# Altium footprint library LABLIB.PcbLib: 213 footprints (part 4 of 14)
Each footprint in its own frame and in the unit in brackets; x right, y up, seen from the top. Pads: shape width x height; smd on the part's side, far side on the other; paste and mask are expansions set on the pad; w line width, h text height; cw(c..) or ccw(c..) is an arc to the next point about the centre after c.
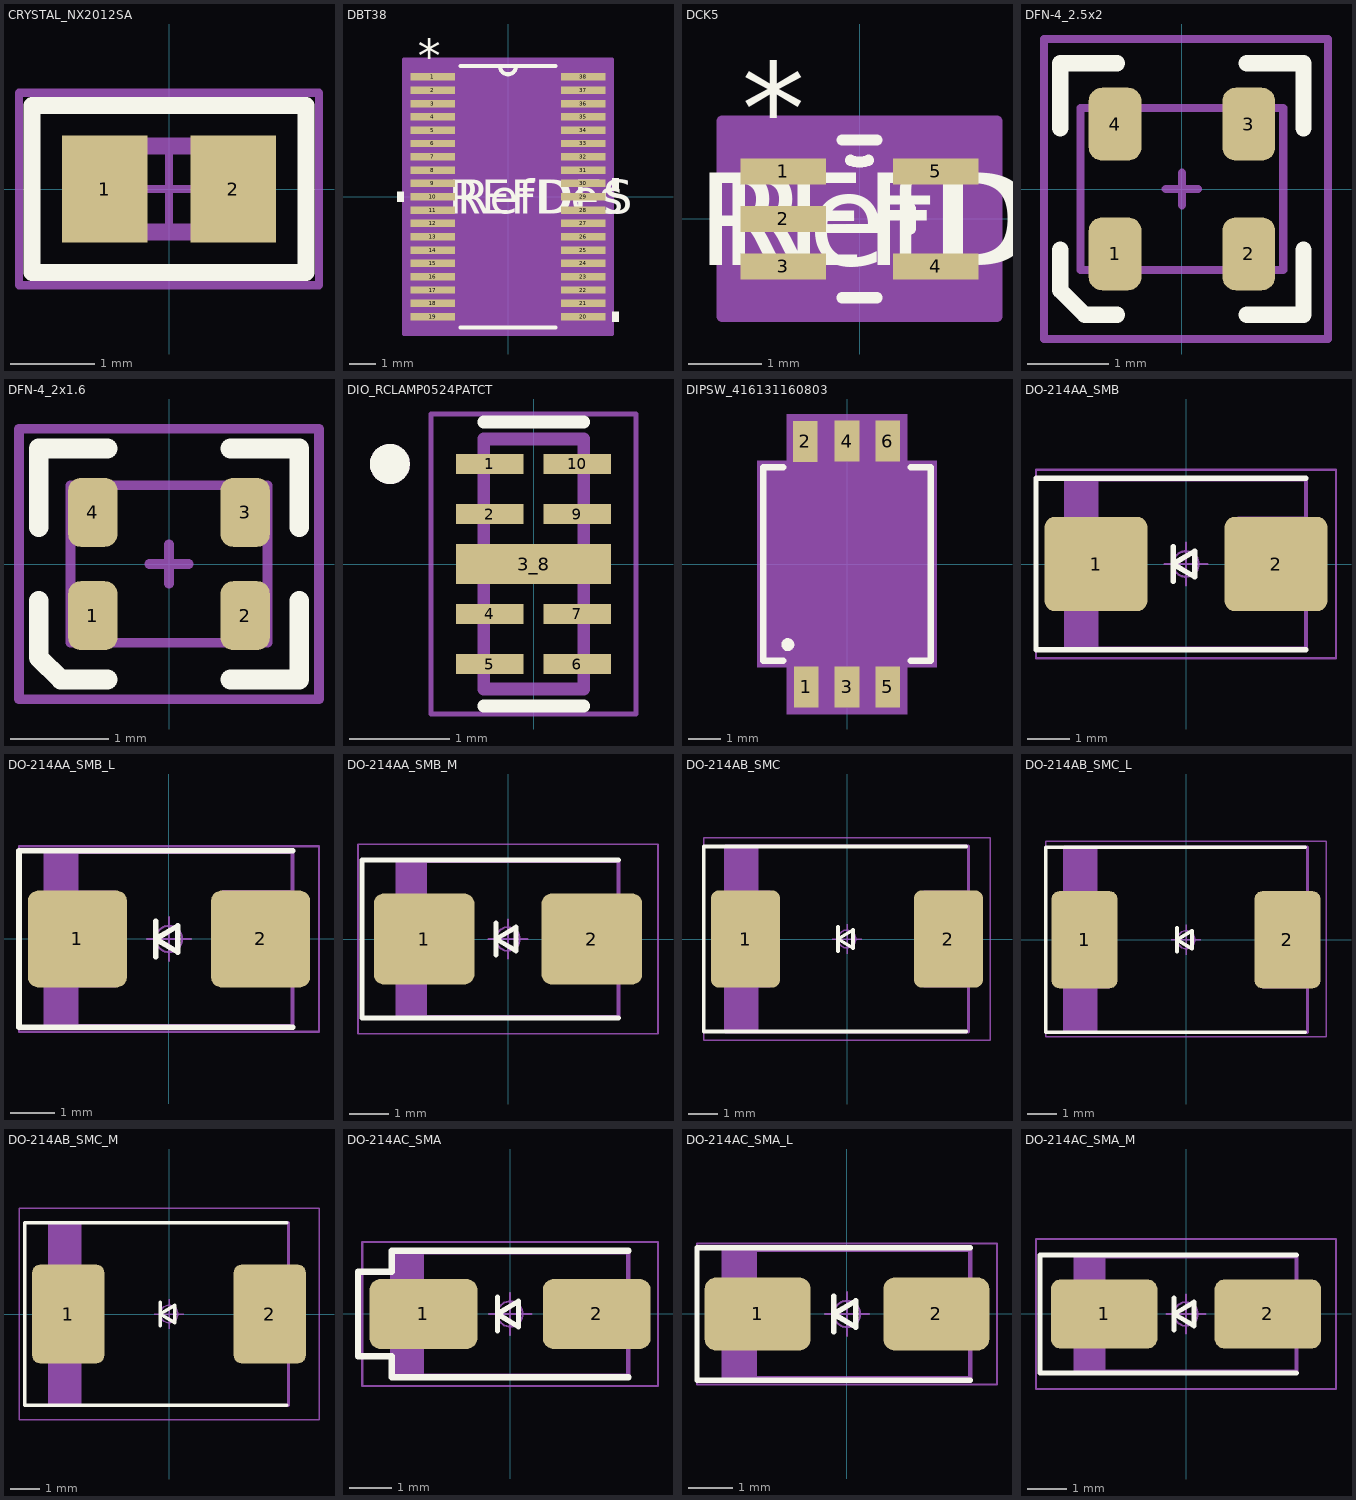
[diagram p3: the footprints below, top view; thin cyan lines are the x and y axes]

## CRYSTAL_NX2012SA [mil] "Crystal NDK NX2012SA"
height 23.62
pads (2):
  rect 40x50 smd paste-1: 1(-30,0) 2(30,0)
Top Overlay:
  lines w8: -64,-39 -64,39 64,39 64,-39 -64,-39
Top Assembly:
  lines w8: -40,-15 -40,-14 -40,15 -35,20 35,20 40,15 40,-15 35,-20 -35,-20 -40,-15
  text ".Designator" at 26.57,18.7 h39.37
Top Courtyard:
  lines w3.94: -19.68,0 19.68,0 ; 0,-19.68 0,19.68 ; -70,-45 -70,45 70,45 70,-45 -70,-45
3D body: height 12, standoff 0, extent -40,-20 40,20
3D body: height 14, standoff 12, extent -38,-18 38,18
3D body: height 21, standoff 14, extent -37,-17 37,17

## DBT38 [mil]
pads (38):
  rect 66x11 smd paste-33 mask-33: 1(-111,177.17) 2(-111,157.48) 3(-111,137.8) 4(-111,118.11) 5(-111,98.43) 6(-111,78.74) 7(-111,59.06) 8(-111,39.37) 9(-111,19.68) 10(-111,0) 11(-111,-19.68) 12(-111,-39.37) 13(-111,-59.06) 14(-111,-78.74) 15(-111,-98.43) 16(-111,-118.11) 17(-111,-137.8) 18(-111,-157.48) 19(-111,-177.17) 20(111,-177.17) 21(111,-157.48) 22(111,-137.8) 23(111,-118.11) 24(111,-98.43) 25(111,-78.74) 26(111,-59.06) 27(111,-39.37) 28(111,-19.68) 29(111,0) 30(111,19.69) 31(111,39.37) 32(111,59.06) 33(111,78.74) 34(111,98.43) 35(111,118.11) 36(111,137.8) 37(111,157.48) 38(111,177.17)
Top Overlay:
  region: -154,7.5 -164,7.5 -164,-7.5 -154,-7.5
  region: 154,-169.67 164,-169.67 164,-184.67 154,-184.67
  region: 154,27.19 164,27.19 164,12.19 154,12.19
  lines w6: -69.95,-193 69.95,-193 ; -69.95,193 69.95,193 ; -12,193 ccw(c0,193) 12,193
  text "*" at -133.5,183.17 h50
  text "RefDes" at -75,-25 h50
  text "REFDES" at -87.5,-25 h50
Mechanical 13:
  drawing of 157 lines, arcs and shapes, not listed
  text "*" at -133.5,183.17 h50
  text "RefDes2" at -87.5,-25 h50
Mechanical 15:
  region: 154,-203 -154,-203 -154,203 154,203
  lines w6: -154,-203 -154,203 154,203 154,-203 -154,-203
3D body "DBT38.step": height 47.09, standoff 0, extent -130,-192.99 130,192.99

## DCK5 [mil]
pads (5):
  rect 46x14 smd paste-23 mask-23: 1(-41,25.59) 2(-41,0) 3(-41,-25.59) 4(41,-25.59) 5(41,25.59)
Top Overlay:
  lines w6: -9.43,-42.5 9.43,-42.5 ; -9.43,42.5 9.43,42.5 ; -4.9,31.55 ccw(c0,42.5) 4.9,31.55 ; 27.5,-5.49 27.5,5.49
  text "*" at -63.5,34.59 h50
  text "RefDes" at -75,-25 h50
  text "REFDES" at -87.5,-25 h50
Mechanical 13:
  lines w0: -12,42.5 ccw(c0,42.5) 12,42.5
  lines w1: -47,-31.59 -47,-19.59 -27.5,-19.59 -27.5,-31.59 -47,-31.59 ; -47,-6 -47,6 -27.5,6 -27.5,-6 -47,-6 ; -47,19.59 -47,31.59 -27.5,31.59 -27.5,19.59 -47,19.59 ; -27.5,-42.5 27.5,-42.5 27.5,42.5 -27.5,42.5 -27.5,-42.5 ; 27.5,-31.59 27.5,-19.59 47,-19.59 47,-31.59 27.5,-31.59 ; 27.5,19.59 27.5,31.59 47,31.59 47,19.59 27.5,19.59
  text "*" at -63.5,34.59 h50
  text "RefDes2" at -87.5,-25 h50
Mechanical 15:
  region: 74,-52.5 -74,-52.5 -74,52.5 74,52.5
  lines w6: -74,-52.5 -74,52.5 74,52.5 74,-52.5 -74,-52.5
3D body "DCK5.step": height 43.11, standoff 0, extent -47.01,-42.52 47.01,42.52

## DFN-4_2.5x2 [mm] "Oscillator DSC1121"
height 0.85
pads (4):
  rrect50% 0.65x0.9 smd: 1(-0.825,-0.8) 2(0.825,-0.8) 3(0.825,0.8) 4(-0.825,0.8)
Top Overlay:
  lines w0.2: -1.5,-0.75 -1.5,-1.25 -1.2,-1.55 -0.8,-1.55 ; -1.5,0.75 -1.5,1.55 -0.8,1.55 ; 0.8,-1.55 1.5,-1.55 1.5,-0.75 ; 0.8,1.55 1.5,1.55 1.5,0.75
  text "." at -1.989,-1.752 h0.7
Top Assembly:
  lines w0.1: -1.25,-1 -1.25,1 1.25,1 1.25,-1 -1.25,-1
  text ".Designator" at 0.186,-0.302 h0.4
  text "1" at -0.9,-0.9 h0.4
Top Courtyard:
  lines w0.1: -0.2,0 0.2,0 ; 0,-0.2 0,0.2 ; -1.7,-1.85 1.8,-1.85 1.8,1.85 -1.7,1.85 -1.7,-1.85
3D body: height 0.86, standoff 0.85, extent -1.1,-0.9 -0.9,-0.7
3D body: height 0.85, standoff 0, extent -1.25,-1 1.25,1

## DFN-4_2x1.6 [mm] "MEMS Oscillator"
height 0.85
pads (4):
  rrect50% 0.5x0.7 smd: 1(-0.775,-0.525) 2(0.775,-0.525) 3(0.775,0.525) 4(-0.775,0.525)
Top Overlay:
  lines w0.2: -1.325,-0.375 -1.325,-0.95 -1.1,-1.175 -0.625,-1.175 ; -1.325,0.375 -1.325,1.175 -0.625,1.175 ; 0.625,-1.175 1.325,-1.175 1.325,-0.375 ; 0.625,1.175 1.325,1.175 1.325,0.375
  text "." at -1.6,-1.45 h0.7
Top Assembly:
  lines w0.1: -1,-0.8 -1,0.8 1,0.8 1,-0.8 -1,-0.8
  text ".Designator" at -0.4,-0.2 h0.4
  text "1" at -0.825,-0.675 h0.4
Top Courtyard:
  lines w0.1: -0.2,0 0.2,0 ; 0,-0.2 0,0.2 ; -1.525,-1.375 1.525,-1.375 1.525,1.375 -1.525,1.375 -1.525,-1.375
3D body: height 0.86, standoff 0.85, extent -0.775,-0.55 -0.575,-0.35
3D body: height 0.85, standoff 0, extent -1,-0.8 1,0.8

## DIO_RCLAMP0524PATCT [mm]
height 0.65
pads (9):
  rect 0.675x0.2 smd: 1(-0.437,1) 2(-0.437,0.5) 4(-0.437,-0.5) 5(-0.437,-1) 6(0.437,-1) 7(0.437,-0.5) 9(0.437,0.5) 10(0.437,1)
  rect 1.55x0.4 smd: 3_8(0,0)
Top Overlay:
  circle w0.2: c-1.438,1 r0.1
  lines w0.127: -0.5,-1.42 0.5,-1.42 ; -0.5,1.42 0.5,1.42
Mechanical 13:
  circle w0.2: c-1.438,1 r0.1
  lines w0.127: -0.5,-1.25 -0.5,1.25 0.5,1.25 0.5,-1.25 -0.5,-1.25
Mechanical 15:
  lines w0.05: -1.025,-1.5 1.025,-1.5 1.025,1.5 -1.025,1.5 -1.025,-1.5
3D body "step_temp.STEP": height 0.65, standoff 0, extent -0.5,-1.25 0.5,1.25

## DIPSW_416131160803 [mm] "SWITCH SLIDE DIP SPST 0.025A 24V"
pads (6):
  rect 0.76x1.27 smd: 1(-1.27,-3.81) 2(-1.3,3.8) 3(0,-3.81) 4(0,3.81) 5(1.27,-3.81) 6(1.27,3.81)
Top Overlay:
  circle w0.2: c-1.835,-2.5 r0.1
  lines w0.2: -1.97,-3 -2.59,-3 -2.59,3 -1.97,3 ; 1.97,-3 2.59,-3 2.59,3 1.97,3
Mechanical 13:
  lines w0.1: -2.49,-2.9 2.49,-2.9 2.49,2.9 -2.49,2.9 -2.49,-2.9
Mechanical 15:
  region: 1.87,3.2 2.79,3.2 2.79,-3.2 1.87,-3.2 1.87,-4.65 -1.87,-4.65 -1.87,-3.2 -2.79,-3.2 -2.79,3.2 -1.87,3.2 -1.87,4.65 1.87,4.65
3D body "step_temp.STEP": height 2.1, standoff 0, extent -2.425,-4 2.425,4

## DO-214AA_SMB [mm] "Molded Diode, 2-Leads, Body 5.40x3.63mm, IPC Medium Density"
height 2.47
pads (2):
  rrect22% 2.4x2.2 smd: 1(-2.1,0) 2(2.1,0)
Top Overlay:
  lines w0.12: 2.8,-2 -3.5,-2 -3.5,2 2.8,2
  lines w0.125: -0.3,-0.4 -0.3,0.4 ; -0.3,0 0.2,-0.3 0.2,0.3 -0.3,0
Top Assembly:
  rectangle: -2.8,-1.975 -2.047,1.975
  lines w0.1: -2.8,-1.975 2.8,-1.975 2.8,1.975 -2.8,1.975 -2.8,-1.975
  text "'.Designator'" at -3.952,-0.622 h1.5
Top Courtyard:
  lines w0.05: -3.5,-2.2 -3.5,2.2 3.5,2.2 3.5,-2.2 -3.5,-2.2
Top Component Outline:
  region: 2.798,1.107 1.198,1.107 1.198,-1.093 2.798,-1.093
  rectangle: -2.8,-1.1 -1.2,1.1
  lines w0.05: -2.8,-1.975 2.8,-1.975 2.8,1.975 -2.8,1.975 -2.8,-1.975
Top Component Center:
  circle w0.05: c0,0 r0.3
  lines w0.05: -0.5,0 0.5,0 ; 0,-0.5 0,0.5
3D body "5BT.STEP": height 2.44, standoff 0, extent -2.699,-1.81 2.699,1.81

## DO-214AA_SMB_L [mm] "Molded Diode, 2-Leads, Body 5.40x3.63mm, IPC Medium Density"
height 2.47
pads (2):
  rrect22% 2.25x2.2 smd: 1(-2.075,0) 2(2.075,0)
Top Overlay:
  lines w0.125: -0.3,-0.4 -0.3,0.4 ; 2.8,-2 -3.4,-2 -3.4,2 2.8,2 ; -0.3,0 0.2,-0.3 0.2,0.3 -0.3,0
Top Assembly:
  rectangle: -2.8,-1.975 -2.047,1.975
  lines w0.1: -2.8,-1.975 2.8,-1.975 2.8,1.975 -2.8,1.975 -2.8,-1.975
  text "'.Designator'" at -3.952,-0.622 h1.5
Top Courtyard:
  lines w0.05: -3.4,-2.1 3.4,-2.1 3.4,2.1 -3.4,2.1 -3.4,-2.1
Top Component Outline:
  rectangle: -2.8,-1.1 -1.2,1.1
  region: 2.798,1.107 1.198,1.107 1.198,-1.093 2.798,-1.093
  lines w0.05: -2.8,-1.975 -2.8,1.975 2.8,1.975 2.8,-1.975 -2.8,-1.975
Top Component Center:
  circle w0.05: c0,0 r0.3
  lines w0.05: -0.5,0 0.5,0 ; 0,-0.5 0,0.5
3D body "5BT.STEP": height 2.44, standoff 0, extent -2.699,-1.81 2.699,1.81

## DO-214AA_SMB_M [mm] "Molded Diode, 2-Leads, Body 5.40x3.63mm, IPC Medium Density"
height 2.47
pads (2):
  rrect21% 2.55x2.3 smd: 1(-2.125,0) 2(2.125,0)
Top Overlay:
  lines w0.125: -0.3,-0.4 -0.3,0.4 ; 2.8,-2 -3.7,-2 -3.7,2 2.8,2 ; -0.3,0 0.2,0.3 0.2,-0.3 -0.3,0
Top Assembly:
  rectangle: -2.8,-1.975 -2.047,1.975
  lines w0.1: -2.8,-1.975 2.8,-1.975 2.8,1.975 -2.8,1.975 -2.8,-1.975
  text "'.Designator'" at -3.952,-0.622 h1.5
Top Courtyard:
  lines w0.05: -3.8,-2.4 3.8,-2.4 3.8,2.4 -3.8,2.4 -3.8,-2.4
Top Component Outline:
  rectangle: -2.8,-1.1 -1.2,1.1
  region: 2.798,1.107 1.198,1.107 1.198,-1.093 2.798,-1.093
  lines w0.05: -2.8,-1.975 -2.8,1.975 2.8,1.975 2.8,-1.975 -2.8,-1.975
Top Component Center:
  circle w0.05: c0,0 r0.3
  lines w0.05: -0.5,0 0.5,0 ; 0,-0.5 0,0.5
3D body "5BT.STEP": height 2.44, standoff 0, extent -2.699,-1.81 2.699,1.81

## DO-214AB_SMC [mm] "Molded Diode, 2-Leads, Body 7.94x5.91mm, IPC Medium Density"
height 2.62
pads (2):
  rrect21% 2.3x3.25 smd: 1(-3.4,0) 2(3.4,0)
Top Overlay:
  lines w0.12: 4,-3.1 -4.8,-3.1 -4.8,3.1 4,3.1
  lines w0.125: -0.3,-0.4 -0.3,0.4 ; -0.3,0 0.2,-0.3 0.2,0.3 -0.3,0
Top Assembly:
  rectangle: -4.065,-3.11 -2.972,3.11
  lines w0.1: -4.065,-3.11 4.065,-3.11 4.065,3.11 -4.065,3.11 -4.065,-3.11
  text "'.Designator'" at -3.952,-0.622 h1.5
Top Courtyard:
  lines w0.05: -4.8,-3.4 4.8,-3.4 4.8,3.4 -4.8,3.4 -4.8,-3.4
Top Component Outline:
  region: 4.075,1.625 2.555,1.625 2.555,-1.625 4.075,-1.625
  rectangle: -4.075,-1.625 -2.555,1.625
  lines w0.05: -4.065,-3.11 4.065,-3.11 4.065,3.11 -4.065,3.11 -4.065,-3.11
Top Component Center:
  circle w0.05: c0,0 r0.3
  lines w0.05: -0.5,0 0.5,0 ; 0,-0.5 0,0.5
3D body "9AT.STEP": height 2.62, standoff 0, extent -3.969,-2.959 3.969,2.959

## DO-214AB_SMC_L [mm] "Molded Diode, 2-Leads, Body 7.94x5.91mm, IPC Medium Density"
height 2.62
pads (2):
  rrect22% 2.2x3.25 smd: 1(-3.4,0) 2(3.4,0)
Top Overlay:
  lines w0.12: 4,-3.1 -4.7,-3.1 -4.7,3.1 4,3.1
  lines w0.125: -0.3,-0.4 -0.3,0.4 ; -0.3,0 0.2,0.3 0.2,-0.3 -0.3,0
Top Assembly:
  rectangle: -4.065,-3.11 -2.972,3.11
  lines w0.1: -4.065,-3.11 -4.065,3.11 4.065,3.11 4.065,-3.11 -4.065,-3.11
  text "'.Designator'" at -3.952,-0.622 h1.5
Top Courtyard:
  lines w0.05: -4.7,-3.25 4.7,-3.25 4.7,3.3 -4.7,3.3 -4.7,-3.25
Top Component Outline:
  rectangle: -4.075,-1.625 -2.555,1.625
  region: 4.075,1.625 2.555,1.625 2.555,-1.625 4.075,-1.625
  lines w0.05: -4.065,-3.11 -4.065,3.11 4.065,3.11 4.065,-3.11 -4.065,-3.11
Top Component Center:
  circle w0.05: c0,0 r0.3
  lines w0.05: -0.5,0 0.5,0 ; 0,-0.5 0,0.5
3D body "9AT.STEP": height 2.62, standoff 0, extent -3.969,-2.959 3.969,2.959

## DO-214AB_SMC_M [mm] "Molded Diode, 2-Leads, Body 7.94x5.91mm, IPC Medium Density"
height 2.62
pads (2):
  rrect20% 2.45x3.35 smd: 1(-3.425,0) 2(3.425,0)
Top Overlay:
  lines w0.125: -0.3,-0.4 -0.3,0.4 ; 4,-3.1 -4.9,-3.1 -4.9,3.1 4,3.1 ; -0.3,0 0.2,-0.3 0.2,0.3 -0.3,0
Top Assembly:
  rectangle: -4.065,-3.11 -2.972,3.11
  lines w0.1: -4.065,-3.11 4.065,-3.11 4.065,3.11 -4.065,3.11 -4.065,-3.11
  text "'.Designator'" at -3.952,-0.622 h1.5
Top Courtyard:
  lines w0.05: -5.1,-3.6 -5.1,3.6 5.1,3.6 5.1,-3.6 -5.1,-3.6
Top Component Outline:
  region: 4.075,1.625 2.555,1.625 2.555,-1.625 4.075,-1.625
  rectangle: -4.075,-1.625 -2.555,1.625
  lines w0.05: -4.065,-3.11 4.065,-3.11 4.065,3.11 -4.065,3.11 -4.065,-3.11
Top Component Center:
  circle w0.05: c0,0 r0.3
  lines w0.05: -0.5,0 0.5,0 ; 0,-0.5 0,0.5
3D body "9AT.STEP": height 2.62, standoff 0, extent -3.969,-2.959 3.969,2.959

## DO-214AC_SMA [mm] "Molded Diode, 2-Leads, Body 5.20x2.61mm, IPC Medium Density"
height 2.4
pads (2):
  rrect30% 2.55x1.65 smd: 1(-2.05,0) 2(2.05,0)
Top Overlay:
  lines w0.125: -0.3,-0.4 -0.3,0.4 ; -0.3,0 0.2,0.3 0.2,-0.3 -0.3,0
  lines w0.15: 2.8,-1.5 -2.8,-1.5 -2.8,-1.4 -2.8,-1 -3.6,-1 -3.6,1 -2.8,1 -2.8,1.5 2.8,1.5
Top Assembly:
  rectangle: -2.795,-1.46 -2.043,1.46
  lines w0.1: -2.795,-1.46 2.795,-1.46 2.795,1.46 -2.795,1.46 -2.795,-1.46
  text "'.Designator'" at -3.952,-0.622 h1.5
Top Courtyard:
  lines w0.05: -3.5,-1.7 3.5,-1.7 3.5,1.7 -3.5,1.7 -3.5,-1.7
Top Component Outline:
  region: 2.8,0.815 1.28,0.815 1.28,-0.815 2.8,-0.815
  rectangle: -2.8,-0.815 -1.28,0.815
  lines w0.05: -2.795,-1.46 2.795,-1.46 2.795,1.46 -2.795,1.46 -2.795,-1.46
Top Component Center:
  circle w0.05: c0,0 r0.3
  lines w0.05: -0.5,0 0.5,0 ; 0,-0.5 0,0.5
3D body "SMAJ12A-13-F.step": height 2.4, standoff 0, extent -2.598,-1.302 2.598,1.302

## DO-214AC_SMA_L [mm] "Molded Diode, 2-Leads, Body 5.20x2.61mm, IPC Medium Density"
height 2.4
pads (2):
  rrect30% 2.4x1.65 smd: 1(-2.025,0) 2(2.025,0)
Top Overlay:
  lines w0.12: 2.8,-1.5 -3.4,-1.5 -3.4,1.5 2.8,1.5
  lines w0.125: -0.3,-0.4 -0.3,0.4 ; -0.3,0 0.2,-0.3 0.2,0.3 -0.3,0
Top Assembly:
  rectangle: -2.795,-1.46 -2.043,1.46
  lines w0.1: -2.795,-1.46 -2.795,1.46 2.795,1.46 2.795,-1.46 -2.795,-1.46
  text "'.Designator'" at -3.952,-0.622 h1.5
Top Courtyard:
  lines w0.05: -3.4,-1.6 3.4,-1.6 3.4,1.6 -3.4,1.6 -3.4,-1.6
Top Component Outline:
  rectangle: -2.8,-0.815 -1.28,0.815
  region: 2.8,0.815 1.28,0.815 1.28,-0.815 2.8,-0.815
  lines w0.05: -2.795,-1.46 -2.795,1.46 2.795,1.46 2.795,-1.46 -2.795,-1.46
Top Component Center:
  circle w0.05: c0,0 r0.3
  lines w0.05: -0.5,0 0.5,0 ; 0,-0.5 0,0.5
3D body "SMAJ12A-13-F.step": height 2.4, standoff 0, extent -2.598,-1.302 2.598,1.302

## DO-214AC_SMA_M [mm] "Molded Diode, 2-Leads, Body 5.20x2.61mm, IPC Medium Density"
height 2.4
pads (2):
  rrect28% 2.7x1.75 smd: 1(-2.075,0) 2(2.075,0)
Top Overlay:
  lines w0.125: -0.3,-0.4 -0.3,0.4 ; 2.8,-1.5 -3.7,-1.5 -3.7,1.5 2.8,1.5 ; -0.3,0 0.2,0.3 0.2,-0.3 -0.3,0
Top Assembly:
  rectangle: -2.795,-1.46 -2.043,1.46
  lines w0.1: -2.795,-1.46 2.795,-1.46 2.795,1.46 -2.795,1.46 -2.795,-1.46
  text "'.Designator'" at -3.952,-0.622 h1.5
Top Courtyard:
  lines w0.05: -3.8,-1.9 -3.8,1.9 3.8,1.9 3.8,-1.9 -3.8,-1.9
Top Component Outline:
  region: 2.8,0.815 1.28,0.815 1.28,-0.815 2.8,-0.815
  rectangle: -2.8,-0.815 -1.28,0.815
  lines w0.05: -2.795,-1.46 2.795,-1.46 2.795,1.46 -2.795,1.46 -2.795,-1.46
Top Component Center:
  circle w0.05: c0,0 r0.3
  lines w0.05: -0.5,0 0.5,0 ; 0,-0.5 0,0.5
3D body "SMAJ12A-13-F.step": height 2.4, standoff 0, extent -2.598,-1.302 2.598,1.302